# EAGLE library part LT1167 (library pro3E_neu)
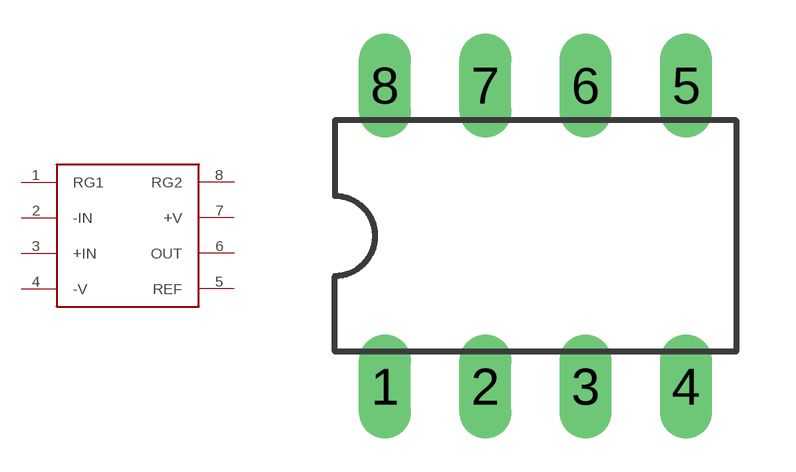
[diagram p2: symbol with the pads of DIL08; footprint DIL08]

Designator prefix U

## LT1167A  [DIL08]
1  RG1
2  -IN  in
3  +IN  in
4  -V
5  REF
6  OUT  out
7  +V
8  RG2

## Footprint DIL08 (pad centres in mm)
Dual In Line Package
drill 0.813 long: 1 -3.81,-3.81; 2 -1.27,-3.81; 3 1.27,-3.81; 4 3.81,-3.81; 5 3.81,3.81; 6 1.27,3.81; 7 -1.27,3.81; 8 -3.81,3.81